# Altium footprint library MF-FSMF050X-2.PcbLib: 3 footprints
Each footprint in its own frame and in the unit in brackets; x right, y up, seen from the top. Pads: shape width x height; smd on the part's side, far side on the other; paste and mask are expansions set on the pad; w line width, h text height; cw(c..) or ccw(c..) is an arc to the next point about the centre after c.
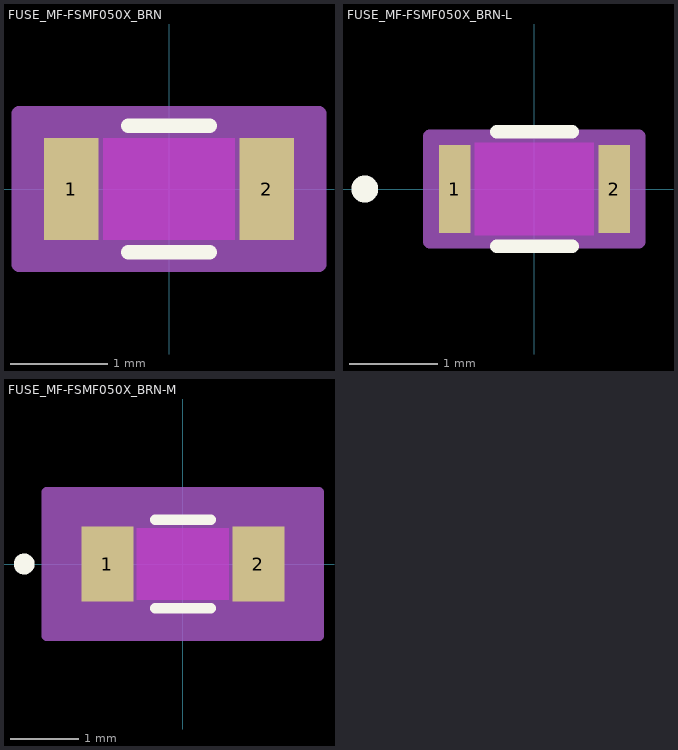
[diagram p0: the footprints below, top view; thin cyan lines are the x and y axes]

## FUSE_MF-FSMF050X_BRN [mil]
pads (2):
  rect 22x41 smd paste+0 mask+0: 1(-39.5,0) 2(39.5,0)
Top Layer keep-out:
  region: -26.5,-18.5 -26.5,18.5 26.5,18.5 26.5,-18.5
Top Overlay:
  lines w6: -16.39,-25.5 16.39,-25.5 ; -16.39,25.5 16.39,25.5
Keep-Out Layer:
  region: -26.5,-20.5 -26.5,20.5 26.5,20.5 26.5,-20.5
Mechanical 13:
  circle w0: c-26.5,0 r0
  lines w1: -36.5,-20.5 -36.5,20.5 ; -36.5,-20.5 -28.5,-20.5 -28.5,20.5 -36.5,20.5 ; -36.5,-20.5 36.5,-20.5 ; -36.5,-20.5 -36.5,20.5 ; -36.5,20.5 36.5,20.5 ; 36.5,-20.5 28.5,-20.5 28.5,20.5 36.5,20.5 ; 36.5,-20.5 36.5,20.5 ; 36.5,-20.5 36.5,20.5
Mechanical 15:
  region: 60.5,-30.5 -60.5,-30.5 -60.5,30.5 60.5,30.5
  lines w6: -60.5,-30.5 -60.5,30.5 60.5,30.5 60.5,-30.5 -60.5,-30.5
3D body "FUSE_MF-FSMF050X_BRN.step": height 39.02, standoff 0, extent -36.5,-20.51 36.5,20.51

## FUSE_MF-FSMF050X_BRN-L [mil]
pads (2):
  rect 14x39 smd paste+0 mask+0: 1(-35.5,0) 2(35.5,0)
Top Layer keep-out:
  region: -26.5,-18.5 -26.5,18.5 26.5,18.5 26.5,-18.5
Top Overlay:
  circle w6: c-75.5,0 r3
  lines w6: -16.85,-25.5 16.85,-25.5 ; -16.85,25.5 16.85,25.5
Keep-Out Layer:
  region: -26.5,-20.5 -26.5,20.5 26.5,20.5 26.5,-20.5
Mechanical 13:
  circle w0: c-26.5,0 r3
  lines w1: -36.5,-20.5 -36.5,20.5 ; -36.5,-20.5 -28.5,-20.5 -28.5,20.5 -36.5,20.5 ; -36.5,-20.5 36.5,-20.5 ; -36.5,-20.5 -36.5,20.5 ; -36.5,20.5 36.5,20.5 ; 36.5,-20.5 28.5,-20.5 28.5,20.5 36.5,20.5 ; 36.5,-20.5 36.5,20.5 ; 36.5,-20.5 36.5,20.5
Mechanical 15:
  region: 46.5,-23.5 -46.5,-23.5 -46.5,23.5 46.5,23.5
  lines w6: -46.5,-23.5 -46.5,23.5 46.5,23.5 46.5,-23.5 -46.5,-23.5
3D body "FUSE_MF-FSMF050X_BRN.step": height 39.02, standoff 0, extent -36.5,-20.51 36.5,20.51

## FUSE_MF-FSMF050X_BRN-M [mil]
pads (2):
  rect 30x43 smd paste+0 mask+0: 1(-43.5,0) 2(43.5,0)
Top Layer keep-out:
  region: -26.5,-18.5 -26.5,18.5 26.5,18.5 26.5,-18.5
Top Overlay:
  circle w6: c-91.5,0 r3
  lines w6: -16.03,-25.5 16.03,-25.5 ; -16.03,25.5 16.03,25.5
Keep-Out Layer:
  region: -26.5,-20.5 -26.5,20.5 26.5,20.5 26.5,-20.5
Mechanical 13:
  circle w0: c-26.5,0 r3
  lines w1: -36.5,-20.5 -36.5,20.5 ; -36.5,-20.5 -28.5,-20.5 -28.5,20.5 -36.5,20.5 ; -36.5,-20.5 36.5,-20.5 ; -36.5,-20.5 -36.5,20.5 ; -36.5,20.5 36.5,20.5 ; 36.5,-20.5 28.5,-20.5 28.5,20.5 36.5,20.5 ; 36.5,-20.5 36.5,20.5 ; 36.5,-20.5 36.5,20.5
Mechanical 15:
  region: 78.5,-41.5 -78.5,-41.5 -78.5,41.5 78.5,41.5
  lines w6: -78.5,-41.5 -78.5,41.5 78.5,41.5 78.5,-41.5 -78.5,-41.5
3D body "FUSE_MF-FSMF050X_BRN.step": height 39.02, standoff 0, extent -36.5,-20.51 36.5,20.51